# Altium footprint library SolderJumper.PcbLib: 7 footprints
Each footprint in its own frame and in the unit in brackets; x right, y up, seen from the top. Pads: shape width x height; smd on the part's side, far side on the other; paste and mask are expansions set on the pad; w line width, h text height; cw(c..) or ccw(c..) is an arc to the next point about the centre after c.
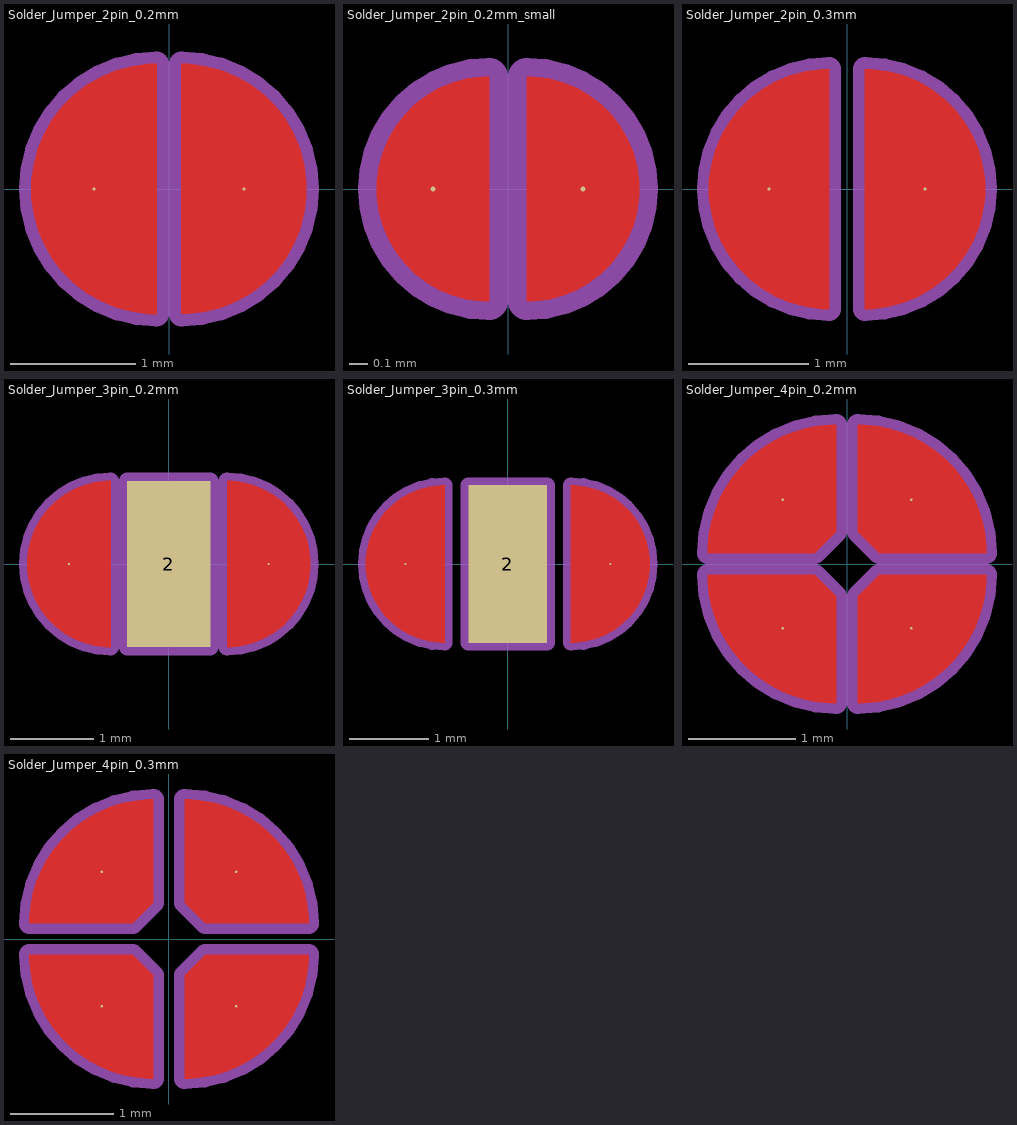
[diagram p0: the footprints below, top view; thin cyan lines are the x and y axes]

## Solder_Jumper_2pin_0.2mm [mil] "Solder jumper with two pins with a spacing of 0.2mm"
pads (2):
  round 1 smd paste-99999: 1(-23.62,0) 2(23.62,0)
Top Layer:
  region: 3.94,-39.37 6.52,-39.37 11.63,-38.7 16.62,-37.36 21.39,-35.39 25.86,-32.81 29.95,-29.66 33.6,-26.01 36.74,-21.92 39.32,-17.45 41.3,-12.68 42.63,-7.7 43.31,-2.58 43.31,0 43.31,2.58 42.63,7.7 41.3,12.68 39.32,17.45 36.74,21.92 33.6,26.01 29.95,29.66 25.86,32.81 21.39,35.39 16.62,37.36 11.63,38.7 6.52,39.37 3.94,39.37
  region: -3.94,39.37 -6.52,39.37 -11.63,38.7 -16.62,37.36 -21.39,35.39 -25.86,32.81 -29.95,29.66 -33.6,26.01 -36.74,21.92 -39.32,17.45 -41.3,12.68 -42.63,7.7 -43.31,2.58 -43.31,0 -43.31,-2.58 -42.63,-7.7 -41.3,-12.68 -39.32,-17.45 -36.74,-21.92 -33.6,-26.01 -29.95,-29.66 -25.86,-32.81 -21.39,-35.39 -16.62,-37.36 -11.63,-38.7 -6.52,-39.37 -3.94,-39.37
Top Solder:
  region: -3.94,43.31 -8.2,43.31 -16.57,41.64 -24.45,38.38 -31.54,33.64 -37.58,27.61 -42.32,20.51 -45.58,12.63 -47.24,4.27 -47.24,0 -47.24,-4.27 -45.58,-12.63 -42.32,-20.51 -37.58,-27.61 -31.54,-33.64 -24.45,-38.38 -16.57,-41.64 -8.2,-43.31 -3.94,-43.31 3.94,-43.31 8.2,-43.31 16.57,-41.64 24.45,-38.38 31.54,-33.64 37.58,-27.61 42.32,-20.51 45.58,-12.63 47.24,-4.27 47.24,0 47.24,4.27 45.58,12.63 42.32,20.51 37.58,27.61 31.54,33.64 24.45,38.38 16.57,41.64 8.2,43.31 3.94,43.31
Top Assembly:
  lines w7.87: -43.31,0 ccw(c-3.94,0) -3.94,-39.37 -3.94,39.37 ccw(c-3.94,0) -43.31,0 ; 3.94,-39.37 ccw(c3.94,0) 43.31,0 ccw(c3.94,0) 3.94,39.37 3.94,-39.37

## Solder_Jumper_2pin_0.2mm_small [mil] "Solder jumper with two pins with a spacing of 0.2mm"
pads (2):
  round 1 smd paste-99999: 1(-15.75,0) 2(15.75,0)
Top Layer:
  region: 3.94,-23.62 5.49,-23.62 8.56,-23.22 11.55,-22.42 14.41,-21.23 17.09,-19.68 19.55,-17.8 21.73,-15.61 23.62,-13.15 25.17,-10.47 26.35,-7.61 27.15,-4.62 27.56,-1.55 27.56,0 27.56,1.55 27.15,4.62 26.35,7.61 25.17,10.47 23.62,13.15 21.74,15.61 19.55,17.8 17.09,19.68 14.41,21.23 11.55,22.42 8.56,23.22 5.49,23.62 3.94,23.62
  region: -3.94,23.62 -5.49,23.62 -8.56,23.22 -11.55,22.42 -14.41,21.23 -17.09,19.68 -19.55,17.8 -21.74,15.61 -23.62,13.15 -25.17,10.47 -26.35,7.61 -27.16,4.62 -27.56,1.55 -27.56,0 -27.56,-1.55 -27.16,-4.62 -26.35,-7.61 -25.17,-10.47 -23.62,-13.15 -21.74,-15.61 -19.55,-17.8 -17.09,-19.68 -14.41,-21.23 -11.55,-22.42 -8.56,-23.22 -5.49,-23.62 -3.94,-23.62
Top Solder:
  region: -3.94,27.56 -6.65,27.56 -11.98,26.51 -17,24.43 -21.52,21.42 -25.36,17.58 -28.37,13.06 -30.45,8.04 -31.5,2.71 -31.5,0 -31.5,-2.71 -30.44,-8.04 -28.36,-13.05 -25.35,-17.57 -21.51,-21.41 -16.99,-24.42 -11.98,-26.5 -6.65,-27.56 -3.94,-27.56 3.94,-27.56 6.65,-27.56 11.98,-26.5 16.99,-24.42 21.5,-21.41 25.34,-17.57 28.36,-13.05 30.44,-8.04 31.5,-2.71 31.5,0 31.5,2.71 30.44,8.04 28.36,13.05 25.34,17.57 21.51,21.41 16.99,24.42 11.98,26.5 6.65,27.56 3.94,27.56
Top Assembly:
  lines w7.87: -3.94,23.62 ccw(c-3.94,23.62) -3.94,23.62 ; -3.94,23.62 ccw(c-3.94,0) -27.56,0 ccw(c-3.94,0) -3.94,-23.62 -3.94,23.62 ; -3.94,23.62 -3.94,23.62 ; 3.94,23.62 ccw(c3.94,23.62) 3.94,23.62 ; 3.94,23.62 cw(c3.94,0) 27.56,0 cw(c3.94,0) 3.94,-23.62 3.94,23.62 ; 3.94,23.62 3.94,23.62

## Solder_Jumper_2pin_0.3mm [mil] "Solder jumper with two pins with a spacing of 0.3mm"
pads (2):
  round 1 smd paste-99999: 1(-25.59,0) 2(25.59,0)
Top Layer:
  region: 5.91,-39.37 8.49,-39.37 13.6,-38.7 18.59,-37.36 23.36,-35.39 27.82,-32.81 31.92,-29.66 35.57,-26.01 38.71,-21.92 41.29,-17.45 43.27,-12.68 44.6,-7.7 45.28,-2.58 45.28,0 45.28,2.58 44.6,7.7 43.27,12.68 41.29,17.45 38.71,21.92 35.57,26.01 31.92,29.66 27.82,32.81 23.36,35.39 18.59,37.36 13.6,38.7 8.49,39.37 5.91,39.37
  region: -5.91,39.37 -8.49,39.37 -13.6,38.7 -18.59,37.36 -23.36,35.39 -27.83,32.81 -31.92,29.66 -35.57,26.01 -38.71,21.92 -41.29,17.45 -43.27,12.68 -44.6,7.7 -45.28,2.58 -45.28,0 -45.28,-2.58 -44.6,-7.7 -43.27,-12.68 -41.29,-17.45 -38.71,-21.92 -35.57,-26.01 -31.92,-29.66 -27.83,-32.81 -23.36,-35.39 -18.59,-37.36 -13.6,-38.7 -8.49,-39.37 -5.91,-39.37
Top Solder:
  region: -5.9,43.31 -10.17,43.31 -18.54,41.64 -26.42,38.38 -33.51,33.64 -39.54,27.61 -44.28,20.51 -47.55,12.63 -49.21,4.26 -49.21,0 -49.21,-4.27 -47.55,-12.63 -44.28,-20.51 -39.54,-27.61 -33.51,-33.64 -26.42,-38.38 -18.54,-41.64 -10.17,-43.31 -5.91,-43.31 -5.9,-43.31 5.91,-43.31 10.17,-43.31 18.54,-41.64 26.42,-38.38 33.51,-33.64 39.54,-27.61 44.28,-20.51 47.55,-12.63 49.21,-4.26 49.21,0 49.21,4.27 47.55,12.63 44.28,20.51 39.54,27.61 33.51,33.64 26.42,38.38 18.54,41.64 10.17,43.31 5.91,43.31
Top Assembly:
  lines w7.87: -5.91,39.37 ccw(c-5.91,0) -45.28,0 ccw(c-5.91,0) -5.91,-39.37 -5.91,39.37 ; -5.91,39.37 -5.91,39.37 ; 5.91,39.37 cw(c5.91,0) 45.28,0 cw(c5.91,0) 5.91,-39.37 5.91,39.37 ; 5.91,39.37 ccw(c5.91,39.37) 5.91,39.37 ; 5.91,39.37 5.91,39.37

## Solder_Jumper_3pin_0.2mm [mil] "Solder jumper with three pins with a spacing of 0.2mm"
pads (3):
  round 1 smd paste-99999: 1(-47.24,0) 3(47.24,0)
  rrect1% 39.37x78.74 smd paste-99999: 2(0,0)
Top Layer:
  region: 27.56,-39.37 30.14,-39.37 35.26,-38.7 40.24,-37.36 45.01,-35.39 49.48,-32.81 53.57,-29.66 57.22,-26.01 60.36,-21.92 62.94,-17.45 64.92,-12.68 66.26,-7.7 66.93,-2.58 66.93,0 66.93,2.58 66.26,7.7 64.92,12.68 62.94,17.45 60.36,21.92 57.22,26.01 53.57,29.66 49.48,32.81 45.01,35.39 40.24,37.36 35.26,38.7 30.14,39.37 27.56,39.37
  region: -27.56,39.37 -30.14,39.37 -35.26,38.7 -40.24,37.36 -45.01,35.39 -49.48,32.81 -53.57,29.66 -57.22,26.01 -60.36,21.92 -62.94,17.45 -64.92,12.68 -66.26,7.7 -66.93,2.58 -66.93,0 -66.93,-2.58 -66.26,-7.7 -64.92,-12.68 -62.94,-17.45 -60.36,-21.92 -57.22,-26.01 -53.57,-29.66 -49.48,-32.81 -45.01,-35.39 -40.24,-37.36 -35.26,-38.7 -30.14,-39.37 -27.56,-39.37
Top Solder:
  region: -27.56,43.31 -31.82,43.31 -40.19,41.64 -48.07,38.38 -55.17,33.64 -61.2,27.61 -65.94,20.51 -69.2,12.63 -70.87,4.27 -70.87,0 -70.87,-4.27 -69.2,-12.63 -65.94,-20.51 -61.2,-27.61 -55.17,-33.64 -48.07,-38.38 -40.19,-41.64 -31.82,-43.31 -27.56,-43.31 31.5,-43.31 35.57,-43.11 43.48,-41.14 50.85,-37.67 57.41,-32.82 62.89,-26.79 67.09,-19.8 69.85,-12.13 71.06,-4.07 70.87,0 70.87,4.27 69.2,12.63 65.94,20.51 61.2,27.61 55.17,33.64 48.07,38.38 40.19,41.64 31.82,43.31 27.56,43.31
Top Assembly:
  lines w7.87: -66.93,0 ccw(c-27.56,0) -27.56,-39.37 -27.56,39.37 ccw(c-27.56,0) -66.93,0 ; -19.68,-39.37 19.68,-39.37 19.68,39.37 -19.68,39.37 -19.68,-39.37 ; 27.56,-39.37 ccw(c27.56,0) 66.93,0 ccw(c27.56,0) 27.56,39.37 27.56,-39.37

## Solder_Jumper_3pin_0.3mm [mil] "Solder jumper with three pins with a spacing of 0.3mm"
pads (3):
  round 1 smd paste-99999: 1(-51.18,0) 3(51.18,0)
  rrect1% 39.37x78.74 smd paste-99999: 2(0,0)
Top Layer:
  region: 31.5,-39.37 34.08,-39.37 39.19,-38.7 44.18,-37.36 48.95,-35.39 53.42,-32.81 57.51,-29.66 61.16,-26.01 64.3,-21.92 66.88,-17.45 68.86,-12.68 70.19,-7.7 70.87,-2.58 70.87,0 70.87,2.58 70.19,7.7 68.86,12.68 66.88,17.45 64.3,21.92 61.16,26.01 57.51,29.66 53.42,32.81 48.95,35.39 44.18,37.36 39.19,38.7 34.08,39.37 31.5,39.37
  region: -31.5,39.37 -34.08,39.37 -39.19,38.7 -44.18,37.36 -48.95,35.39 -53.42,32.81 -57.51,29.66 -61.16,26.01 -64.3,21.92 -66.88,17.45 -68.86,12.68 -70.19,7.7 -70.87,2.58 -70.87,0 -70.87,-2.58 -70.19,-7.7 -68.86,-12.68 -66.88,-17.45 -64.3,-21.92 -61.16,-26.01 -57.51,-29.66 -53.42,-32.81 -48.95,-35.39 -44.18,-37.36 -39.19,-38.7 -34.08,-39.37 -31.5,-39.37
Top Solder:
  region: -31.5,43.31 -35.76,43.31 -44.13,41.64 -52.01,38.38 -59.1,33.64 -65.14,27.61 -69.88,20.51 -73.14,12.63 -74.8,4.27 -74.8,0 -74.8,-4.26 -73.14,-12.63 -69.87,-20.51 -65.14,-27.61 -59.1,-33.64 -52.01,-38.38 -44.13,-41.64 -35.76,-43.31 -31.5,-43.31 35.43,-43.31 39.5,-43.11 47.42,-41.14 54.79,-37.67 61.35,-32.82 66.83,-26.79 71.03,-19.8 73.79,-12.13 75,-4.07 74.8,0 74.8,4.27 73.14,12.63 69.88,20.52 65.14,27.61 59.1,33.64 52.01,38.38 44.13,41.64 35.76,43.31 31.5,43.31
Top Assembly:
  lines w7.87: -70.87,0 cw(c-31.5,0) -31.5,39.37 -31.5,-39.37 cw(c-31.5,0) -70.87,0 ; -19.68,-39.37 -19.68,39.37 19.68,39.37 19.68,-39.37 -19.68,-39.37 ; 31.5,-39.37 ccw(c31.5,0) 70.87,0 ccw(c31.5,0) 31.5,39.37 31.5,-39.37

## Solder_Jumper_4pin_0.2mm [mil] "Solder jumper with four pins with a spacing of 0.2mm"
pads (4):
  round 1 smd paste-99999: 1(-23.62,23.62) 2(23.62,23.62) 3(-23.62,-23.62) 4(23.62,-23.62)
Top Layer:
  region: 51.18,3.94 51.18,6.26 50.73,10.88 49.82,15.43 48.47,19.87 46.7,24.16 44.51,28.25 41.93,32.11 38.99,35.7 35.7,38.98 32.11,41.93 28.26,44.51 24.16,46.7 19.87,48.47 15.43,49.82 10.88,50.73 6.26,51.18 3.94,51.18 3.94,11.81 11.81,3.94
  region: -3.94,51.18 -6.26,51.18 -10.88,50.73 -15.43,49.82 -19.87,48.47 -24.16,46.7 -28.25,44.51 -32.11,41.93 -35.7,38.99 -38.98,35.7 -41.93,32.11 -44.51,28.26 -46.7,24.16 -48.47,19.87 -49.82,15.43 -50.73,10.88 -51.18,6.26 -51.18,3.94 -11.81,3.94 -3.94,11.81
  region: 3.94,-51.18 6.26,-51.18 10.88,-50.73 15.43,-49.82 19.87,-48.47 24.16,-46.7 28.25,-44.51 32.11,-41.93 35.7,-38.99 38.98,-35.7 41.93,-32.11 44.51,-28.26 46.7,-24.16 48.47,-19.87 49.82,-15.43 50.73,-10.88 51.18,-6.26 51.18,-3.94 11.81,-3.94 3.94,-11.81
  region: -51.18,-3.94 -51.18,-6.26 -50.73,-10.88 -49.82,-15.43 -48.47,-19.87 -46.7,-24.16 -44.51,-28.25 -41.93,-32.11 -38.99,-35.7 -35.7,-38.98 -32.11,-41.93 -28.26,-44.51 -24.16,-46.7 -19.87,-48.47 -15.43,-49.82 -10.88,-50.73 -6.26,-51.18 -3.94,-51.18 -3.94,-11.81 -11.81,-3.94
Top Solder:
  region: -3.94,55.12 -8.98,55.12 -18.87,53.15 -28.18,49.29 -36.56,43.69 -43.69,36.56 -49.29,28.18 -53.15,18.87 -55.12,8.98 -55.12,3.94 -55.12,-3.94 -55.12,-8.98 -53.15,-18.87 -49.29,-28.18 -43.69,-36.56 -36.56,-43.69 -28.18,-49.29 -18.87,-53.15 -8.98,-55.12 -3.94,-55.12 3.94,-55.12 8.98,-55.12 18.87,-53.15 28.18,-49.29 36.56,-43.69 43.69,-36.56 49.29,-28.18 53.15,-18.87 55.12,-8.98 55.12,-3.94 55.12,3.94 55.12,8.98 53.15,18.87 49.29,28.18 43.69,36.56 36.56,43.69 28.18,49.29 18.87,53.15 8.98,55.12 3.94,55.12
Top Assembly:
  lines w7.87: -3.94,-51.18 cw(c-3.94,-3.94) -51.18,-3.94 -11.81,-3.94 -3.94,-11.81 -3.94,-51.18 ; -3.94,-51.18 -3.94,-51.18 ; 3.94,51.18 cw(c3.94,3.94) 51.18,3.94 ; 3.94,51.18 3.94,51.18 ; 3.94,51.18 3.94,11.81 11.81,3.93 51.18,3.93 ; 51.18,3.93 ccw(c51.18,3.94) 51.18,3.94 ; -51.18,3.94 cw(c-3.94,3.94) -3.94,51.18 -3.94,11.81 -11.81,3.94 -51.18,3.94 ; 3.94,-51.18 ccw(c3.94,-3.94) 51.18,-3.94 11.81,-3.94 3.94,-11.81 3.94,-51.18

## Solder_Jumper_4pin_0.3mm [mil] "Solder jumper with four pins with a spacing of 0.3mm"
pads (4):
  round 1 smd paste-99999: 1(-25.59,25.59) 2(25.59,25.59) 3(-25.59,-25.59) 4(25.59,-25.59)
Top Layer:
  region: 53.15,5.91 53.15,8.23 52.69,12.85 51.79,17.4 50.44,21.84 48.67,26.13 46.48,30.22 43.9,34.08 40.95,37.67 37.67,40.95 34.08,43.9 30.22,46.48 26.13,48.66 21.84,50.44 17.4,51.79 12.85,52.69 8.23,53.15 5.91,53.15 5.91,13.78 13.78,5.9
  region: -5.91,53.15 -8.23,53.15 -12.85,52.69 -17.4,51.79 -21.84,50.44 -26.13,48.67 -30.22,46.48 -34.08,43.9 -37.67,40.95 -40.95,37.67 -43.9,34.08 -46.48,30.22 -48.66,26.13 -50.44,21.84 -51.79,17.4 -52.69,12.85 -53.15,8.23 -53.15,5.91 -13.78,5.91 -5.9,13.78
  region: 5.91,-53.15 8.23,-53.15 12.85,-52.69 17.4,-51.79 21.84,-50.44 26.13,-48.67 30.22,-46.48 34.08,-43.9 37.67,-40.95 40.95,-37.67 43.9,-34.08 46.48,-30.22 48.66,-26.13 50.44,-21.84 51.79,-17.4 52.69,-12.85 53.15,-8.23 53.15,-5.91 13.78,-5.91 5.9,-13.78
  region: -53.15,-5.91 -53.15,-8.23 -52.69,-12.85 -51.79,-17.4 -50.44,-21.84 -48.67,-26.13 -46.48,-30.22 -43.9,-34.08 -40.95,-37.67 -37.67,-40.95 -34.08,-43.9 -30.22,-46.48 -26.13,-48.66 -21.84,-50.44 -17.4,-51.79 -12.85,-52.69 -8.23,-53.15 -5.91,-53.15 -5.91,-13.78 -13.78,-5.9
Top Solder:
  region: -5.91,57.09 -10.95,57.09 -20.83,55.12 -30.15,51.26 -38.53,45.66 -45.66,38.53 -51.26,30.15 -55.12,20.83 -57.09,10.95 -57.09,5.91 -57.09,-5.91 -57.09,-10.95 -55.12,-20.83 -51.26,-30.15 -45.66,-38.53 -38.53,-45.66 -30.15,-51.26 -20.83,-55.12 -10.95,-57.09 -5.91,-57.09 5.91,-57.09 10.95,-57.09 20.84,-55.12 30.15,-51.26 38.53,-45.66 45.66,-38.53 51.26,-30.15 55.12,-20.83 57.09,-10.95 57.09,-5.91 57.09,5.91 57.09,10.95 55.12,20.84 51.26,30.15 45.66,38.53 38.53,45.66 30.15,51.26 20.84,55.12 10.95,57.09 5.91,57.09
Top Assembly:
  lines w7.87: -53.15,5.91 cw(c-5.91,5.91) -5.91,53.15 -5.91,13.78 -13.78,5.91 -53.15,5.91 ; -53.15,5.91 -53.15,5.91 ; -5.91,-53.15 cw(c-5.91,-5.91) -53.15,-5.91 -13.78,-5.91 -5.91,-13.78 -5.91,-53.15 ; -5.91,-53.15 -5.91,-53.15 ; 5.91,53.15 cw(c5.91,5.91) 53.15,5.91 13.78,5.91 5.91,13.78 5.91,53.15 ; 5.91,53.15 5.91,53.15 ; 53.15,-5.91 cw(c5.91,-5.91) 5.91,-53.15 5.91,-13.78 13.78,-5.91 53.15,-5.91 ; 53.15,-5.91 53.15,-5.91